# Altium schematic symbol library Components - 24.10.24 - 13.40.SchLib: 1 symbol
Pins are listed as number, name and electrical type; pins without a type are passive.

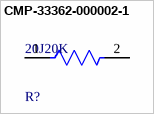
[diagram p0: symbol CMP-33362-000002-1]

## CMP-33362-000002-1
designator R?, comment 20J20K
RES 20K OHM 10W 5% AXIAL; Manufacturer: Ohmite; Value: 20000Ω; Temperature Coefficient: 30ppm/°C; Voltage Rating: 720V; Composition: Wirewound; Height: 10mm; RoHS: FALSE; Device Class L3: Through-Hole Resistors; Category: Res; Power Rating: 10W; Digikey Description: RES 20K OHM 10W 5% AXIAL; Tolerance: 5%; Lead Free: No; Manufacturer Part Number: 20J20K; Automotive: No; Ipc Land Pattern Name: RESAD5082W100L4720D1000; Device Class L1: Passive Components; Mouser Description: Wirewound Resistors 10watt 20K 10%; Package: 20; Device Class L2: Resistors; ComponentLink2Description: Datasheet; Octopart: https://octopart.com/20j20k-ohmite-14708; Resistance: 20000Ω; ComponentLink2URL: https://www.ohmite.com/assets/docs/res_20.pdf?r=false; Series: 20
footprint FP-20-MFG
pins: 1, 2